# Altium footprint library SQP3.PcbLib: 1 footprints
Each footprint in its own frame and in the unit in brackets; x right, y up, seen from the top. Pads: shape width x height; smd on the part's side, far side on the other; paste and mask are expansions set on the pad; w line width, h text height; cw(c..) or ccw(c..) is an arc to the next point about the centre after c.
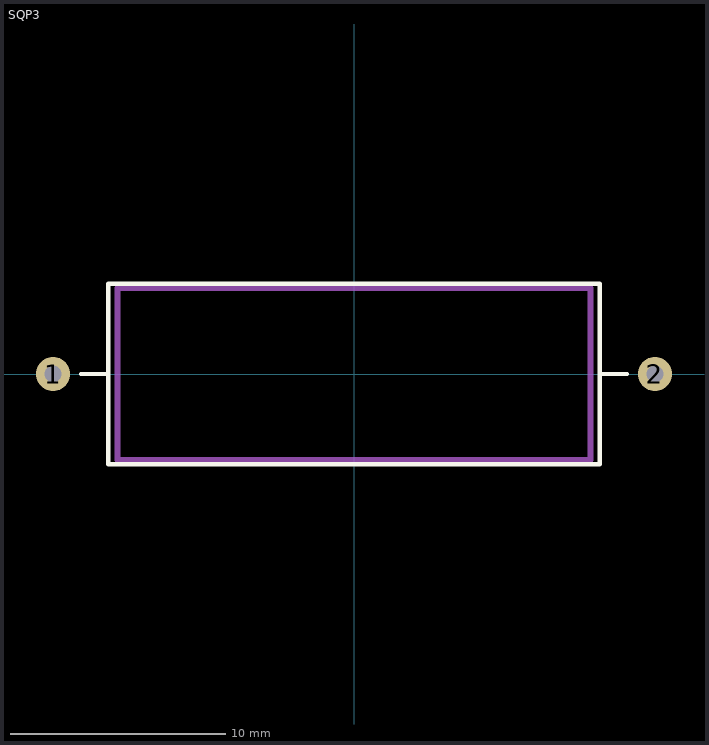
[diagram p0: the footprint, top view; thin cyan lines are the x and y axes]

## SQP3 [mm] "CAPR_pin_space-deep_x_weidth_x_height"
pads (2):
  round 1.6 hole 0.8: 1(-14,0) 2(14,0)
Top Overlay:
  lines w0.2: -12.7,0 -11.43,0 ; 11.43,0 12.7,0 ; -11.43,-4.191 -11.43,4.191 11.43,4.191 11.43,-4.191 -11.43,-4.191
Mechanical 1:
  text ".Designator" at -3.302,-0.254 h1.52
Mechanical 13:
  lines w0.3: 11,-4 11,4 ; 11,-4 11,4 ; 11,-4 -11,-4 -11,4 11,4
3D body: height 8, standoff 0, extent -11.15,-4.15 11.15,4.15